# Altium footprint library Pcb_Espressef_ic_lib.PcbLib: 1 footprints
Each footprint in its own frame and in the unit in brackets; x right, y up, seen from the top. Pads: shape width x height; smd on the part's side, far side on the other; paste and mask are expansions set on the pad; w line width, h text height; cw(c..) or ccw(c..) is an arc to the next point about the centre after c.
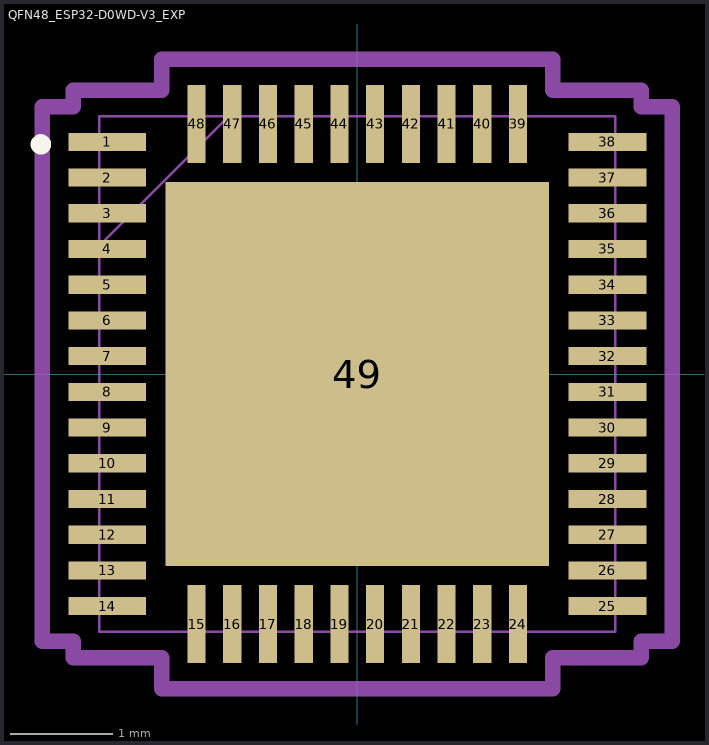
[diagram p0: the footprint, top view; thin cyan lines are the x and y axes]

## QFN48_ESP32-D0WD-V3_EXP [mil]
pads (49):
  rect 30x7 smd paste+0 mask+0: 1(-96.5,89.57) 2(-96.5,75.79) 3(-96.5,62.01) 4(-96.5,48.23) 5(-96.5,34.45) 6(-96.5,20.67) 7(-96.5,6.89) 8(-96.5,-6.89) 9(-96.5,-20.67) 10(-96.5,-34.45) 11(-96.5,-48.23) 12(-96.5,-62.01) 13(-96.5,-75.79) 14(-96.5,-89.57) 25(96.5,-89.57) 26(96.5,-75.79) 27(96.5,-62.01) 28(96.5,-48.23) 29(96.5,-34.45) 30(96.5,-20.67) 31(96.5,-6.89) 32(96.5,6.89) 33(96.5,20.67) 34(96.5,34.45) 35(96.5,48.23) 36(96.5,62.01) 37(96.5,75.79) 38(96.5,89.57)
  rect 7x30 smd paste+0 mask+0: 15(-62.01,-96.5) 16(-48.23,-96.5) 17(-34.45,-96.5) 18(-20.67,-96.5) 19(-6.89,-96.5) 20(6.89,-96.5) 21(20.67,-96.5) 22(34.45,-96.5) 23(48.23,-96.5) 24(62.01,-96.5) 39(62.01,96.5) 40(48.23,96.5) 41(34.45,96.5) 42(20.67,96.5) 43(6.89,96.5) 44(-6.89,96.5) 45(-20.67,96.5) 46(-34.45,96.5) 47(-48.23,96.5) 48(-62.01,96.5)
  rect 148x148 smd paste-74 mask+0: 49(0,0)
Top Overlay:
  circle w3.94: c-122.05,88.58 r1.97
Top Paste:
  region: 70.06,-3.94 3.94,-3.94 3.94,-70.06 70.06,-70.06
  region: 70.06,70.06 3.94,70.06 3.94,3.94 70.06,3.94
  region: -3.94,-3.94 -70.06,-3.94 -70.06,-70.06 -3.94,-70.06
  region: -3.94,70.06 -70.06,70.06 -70.06,3.94 -3.94,3.94
Mechanical 13:
  lines w1: -99.5,49.5 -49.5,99.5 ; -99.5,-99.5 -99.5,99.5 99.5,99.5 99.5,-99.5 -99.5,-99.5 ; -99.5,-94.07 -99.5,-85.07 -99.5,-94.07 ; -99.5,-80.29 -99.5,-71.29 -99.5,-80.29 ; -99.5,-66.51 -99.5,-57.51 -99.5,-66.51 ; -99.5,-52.73 -99.5,-43.73 -99.5,-52.73 ; -99.5,-38.95 -99.5,-29.95 -99.5,-38.95 ; -99.5,-25.17 -99.5,-16.17 -99.5,-25.17 ; -99.5,-11.39 -99.5,-2.39 -99.5,-11.39 ; -99.5,2.39 -99.5,11.39 -99.5,2.39 ; -99.5,16.17 -99.5,25.17 -99.5,16.17 ; -99.5,29.95 -99.5,38.95 -99.5,29.95 ; -99.5,43.73 -99.5,52.73 -99.5,43.73 ; -99.5,57.51 -99.5,66.51 -99.5,57.51 ; -99.5,71.29 -99.5,80.29 -99.5,71.29 ; -99.5,85.07 -99.5,94.07 -99.5,85.07 ; -66.51,-99.5 -57.51,-99.5 -66.51,-99.5 ; -66.51,99.5 -57.51,99.5 -66.51,99.5 ; -52.73,-99.5 -43.73,-99.5 -52.73,-99.5 ; -52.73,99.5 -43.73,99.5 -52.73,99.5 ; -38.95,-99.5 -29.95,-99.5 -38.95,-99.5 ; -38.95,99.5 -29.95,99.5 -38.95,99.5 ; -25.17,-99.5 -16.17,-99.5 -25.17,-99.5 ; -25.17,99.5 -16.17,99.5 -25.17,99.5 ; -11.39,-99.5 -2.39,-99.5 -11.39,-99.5 ; -11.39,99.5 -2.39,99.5 -11.39,99.5 ; 2.39,-99.5 11.39,-99.5 2.39,-99.5 ; 2.39,99.5 11.39,99.5 2.39,99.5 ; 16.17,-99.5 25.17,-99.5 16.17,-99.5 ; 16.17,99.5 25.17,99.5 16.17,99.5 ; 29.95,-99.5 38.95,-99.5 29.95,-99.5 ; 29.95,99.5 38.95,99.5 29.95,99.5 ; 43.73,-99.5 52.73,-99.5 43.73,-99.5 ; 43.73,99.5 52.73,99.5 43.73,99.5 ; 57.51,-99.5 66.51,-99.5 57.51,-99.5 ; 57.51,99.5 66.51,99.5 57.51,99.5 ; 99.5,-94.07 99.5,-85.07 99.5,-94.07 ; 99.5,-80.29 99.5,-71.29 99.5,-80.29 ; 99.5,-66.51 99.5,-57.51 99.5,-66.51 ; 99.5,-52.73 99.5,-43.73 99.5,-52.73 ; 99.5,-38.95 99.5,-29.95 99.5,-38.95 ; 99.5,-25.17 99.5,-16.17 99.5,-25.17 ; 99.5,-11.39 99.5,-2.39 99.5,-11.39 ; 99.5,2.39 99.5,11.39 99.5,2.39 ; 99.5,16.17 99.5,25.17 99.5,16.17 ; 99.5,29.95 99.5,38.95 99.5,29.95 ; 99.5,43.73 99.5,52.73 99.5,43.73 ; 99.5,57.51 99.5,66.51 99.5,57.51 ; 99.5,71.29 99.5,80.29 99.5,71.29 ; 99.5,85.07 99.5,94.07 99.5,85.07
Mechanical 15:
  lines w6: -121.5,-103.07 -121.5,103.07 -109.5,103.07 -109.5,109.5 -75.51,109.5 -75.51,121.5 75.51,121.5 75.51,109.5 109.5,109.5 109.5,103.07 121.5,103.07 121.5,-103.07 109.5,-103.07 109.5,-109.5 75.51,-109.5 75.51,-121.5 -75.51,-121.5 -75.51,-109.5 -109.5,-109.5 -109.5,-103.07 -121.5,-103.07
3D body "QFN48_ESP32-D0WD-V3_EXP.step": height 35.12, standoff 0, extent -99.49,-99.49 99.49,99.49